# Altium schematic symbol library Molex PicoBlade Connectors.SchLib: 29 symbols
Pins are listed as number, name and electrical type; pins without a type are passive.

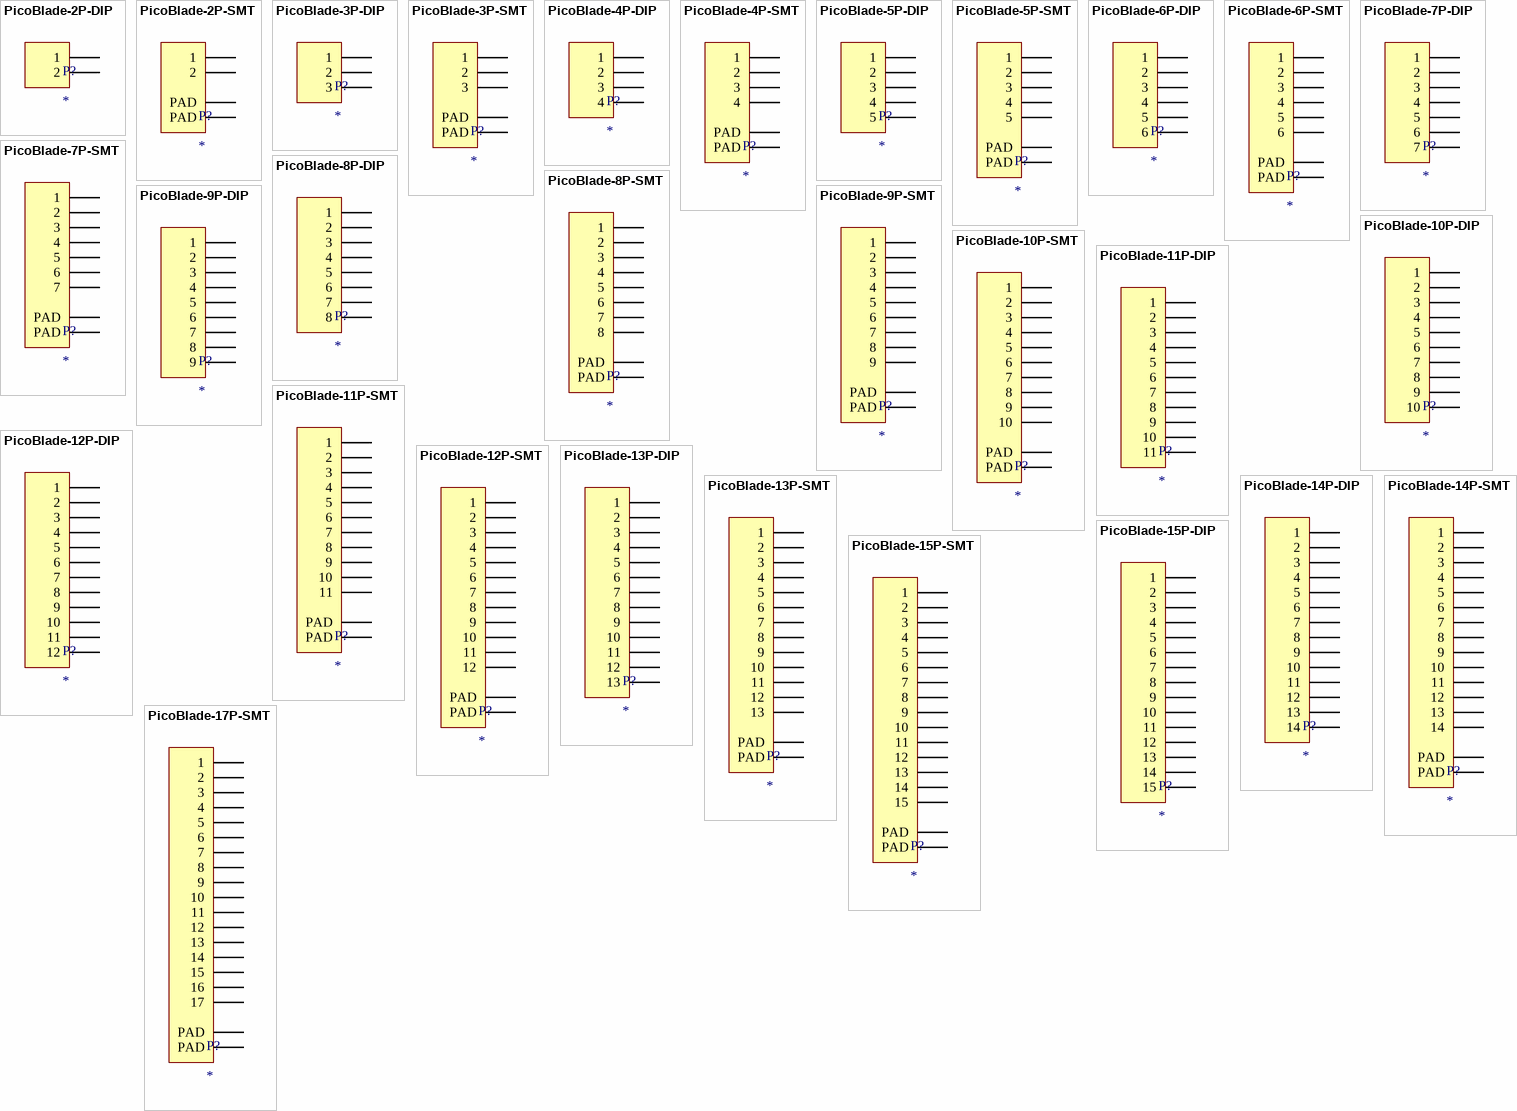
[diagram p0: symbols PicoBlade-2P-DIP to PicoBlade-17P-SMT]

## PicoBlade-2P-DIP
designator P?
1A, 125V, 1.25mm pitch connector
footprint 53047-0210 (1.25mm Pitch PicoBlade Wire-to-Board Header, Vertical, with Friction Lock, 2 Circuits)
footprint 53048-0210 (1.25mm Pitch PicoBlade 1.25mm Pitch PicoBlade Header, Through Hole, Right-Angle, 2 Circuits, Tin (Sn) Plating)
pins: 1, 2

## PicoBlade-2P-SMT
designator P?
1A, 125V, 1.25mm pitch connector
footprint 53261-0271 (1.25mm Pitch PicoBlade Header, Surface Mount, Right-Angle, 2 Circuits, Tin (Sn) Plating)
footprint 53398-0271 (1.25mm Pitch PicoBlade Header, Surface Mount, Vertical, 2 Circuits)
pins: 0 PAD, 1, 2, 100 PAD

## PicoBlade-3P-DIP
designator P?
1A, 125V, 1.25mm pitch connector
footprint 53047-0310 (1.25mm Pitch PicoBlade Wire-to-Board Header, Vertical, with Friction Lock, 3 Circuits)
footprint 53048-0310 (1.25mm Pitch PicoBlade 1.25mm Pitch PicoBlade Header, Through Hole, Right-Angle, 3 Circuits, Tin (Sn) Plating)
pins: 1, 2, 3

## PicoBlade-3P-SMT
designator P?
1A, 125V, 1.25mm pitch connector
footprint 53261-0371 (1.25mm Pitch PicoBlade Header, Surface Mount, Right-Angle, 3 Circuits, Tin (Sn) Plating)
footprint 53398-0371 (1.25mm Pitch PicoBlade Header, Surface Mount, Vertical, 3 Circuits)
pins: 0 PAD, 1, 2, 3, 100 PAD

## PicoBlade-4P-DIP
designator P?
1A, 125V, 1.25mm pitch connector
footprint 53047-0410 (1.25mm Pitch PicoBlade Wire-to-Board Header, Vertical, with Friction Lock, 4 Circuits)
footprint 53048-0410 (1.25mm Pitch PicoBlade 1.25mm Pitch PicoBlade Header, Through Hole, Right-Angle, 4 Circuits, Tin (Sn) Plating)
pins: 1, 2, 3, 4

## PicoBlade-4P-SMT
designator P?
1A, 125V, 1.25mm pitch connector
footprint 53261-0471 (1.25mm Pitch PicoBlade Header, Surface Mount, Right-Angle, 4 Circuits, Tin (Sn) Plating)
footprint 53398-0471 (1.25mm Pitch PicoBlade Header, Surface Mount, Vertical, 4 Circuits)
pins: 0 PAD, 1, 2, 3, 4, 100 PAD

## PicoBlade-5P-DIP
designator P?
1A, 125V, 1.25mm pitch connector
footprint 53047-0510 (1.25mm Pitch PicoBlade Wire-to-Board Header, Vertical, with Friction Lock, 5 Circuits)
footprint 53048-0510 (1.25mm Pitch PicoBlade 1.25mm Pitch PicoBlade Header, Through Hole, Right-Angle, 5 Circuits, Tin (Sn) Plating)
pins: 1, 2, 3, 4, 5

## PicoBlade-5P-SMT
designator P?
1A, 125V, 1.25mm pitch connector
footprint 53261-0571 (1.25mm Pitch PicoBlade Header, Surface Mount, Right-Angle, 5 Circuits, Tin (Sn) Plating)
footprint 53398-0571 (1.25mm Pitch PicoBlade Header, Surface Mount, Vertical, 5 Circuits)
pins: 0 PAD, 1, 2, 3, 4, 5, 100 PAD

## PicoBlade-6P-DIP
designator P?
1A, 125V, 1.25mm pitch connector
footprint 53047-0610 (1.25mm Pitch PicoBlade Wire-to-Board Header, Vertical, with Friction Lock, 6 Circuits)
footprint 53048-0610 (1.25mm Pitch PicoBlade 1.25mm Pitch PicoBlade Header, Through Hole, Right-Angle, 6 Circuits, Tin (Sn) Plating)
pins: 1, 2, 3, 4, 5, 6

## PicoBlade-6P-SMT
designator P?
1A, 125V, 1.25mm pitch connector
footprint 53261-0671 (1.25mm Pitch PicoBlade Header, Surface Mount, Right-Angle, 6 Circuits, Tin (Sn) Plating)
footprint 53398-0671 (1.25mm Pitch PicoBlade Header, Surface Mount, Vertical, 6 Circuits)
pins: 0 PAD, 1, 2, 3, 4, 5, 6, 100 PAD

## PicoBlade-7P-DIP
designator P?
1A, 125V, 1.25mm pitch connector
footprint 53047-0710 (1.25mm Pitch PicoBlade Wire-to-Board Header, Vertical, with Friction Lock, 7 Circuits)
footprint 53048-0710 (1.25mm Pitch PicoBlade 1.25mm Pitch PicoBlade Header, Through Hole, Right-Angle, 7 Circuits, Tin (Sn) Plating)
pins: 1, 2, 3, 4, 5, 6, 7

## PicoBlade-7P-SMT
designator P?
1A, 125V, 1.25mm pitch connector
footprint 53261-0771 (1.25mm Pitch PicoBlade Header, Surface Mount, Right-Angle, 7 Circuits, Tin (Sn) Plating)
footprint 53398-0771 (1.25mm Pitch PicoBlade Header, Surface Mount, Vertical, 7 Circuits)
pins: 0 PAD, 1, 2, 3, 4, 5, 6, 7, 100 PAD

## PicoBlade-8P-DIP
designator P?
1A, 125V, 1.25mm pitch connector
footprint 53047-0810 (1.25mm Pitch PicoBlade Wire-to-Board Header, Vertical, with Friction Lock, 8 Circuits)
footprint 53048-0810 (1.25mm Pitch PicoBlade 1.25mm Pitch PicoBlade Header, Through Hole, Right-Angle, 8 Circuits, Tin (Sn) Plating)
pins: 1, 2, 3, 4, 5, 6, 7, 8

## PicoBlade-8P-SMT
designator P?
1A, 125V, 1.25mm pitch connector
footprint 53261-0871 (1.25mm Pitch PicoBlade Header, Surface Mount, Right-Angle, 8 Circuits, Tin (Sn) Plating)
footprint 53398-0871 (1.25mm Pitch PicoBlade Header, Surface Mount, Vertical, 8 Circuits)
pins: 0 PAD, 1, 2, 3, 4, 5, 6, 7, 8, 100 PAD

## PicoBlade-9P-DIP
designator P?
1A, 125V, 1.25mm pitch connector
footprint 53047-0910 (1.25mm Pitch PicoBlade Wire-to-Board Header, Vertical, with Friction Lock, 9 Circuits)
footprint 53048-0910 (1.25mm Pitch PicoBlade 1.25mm Pitch PicoBlade Header, Through Hole, Right-Angle, 9 Circuits, Tin (Sn) Plating)
pins: 1, 2, 3, 4, 5, 6, 7, 8, 9

## PicoBlade-9P-SMT
designator P?
1A, 125V, 1.25mm pitch connector
footprint 53261-0971 (1.25mm Pitch PicoBlade Header, Surface Mount, Right-Angle, 9 Circuits, Tin (Sn) Plating)
footprint 53398-0971 (1.25mm Pitch PicoBlade Header, Surface Mount, Vertical, 9 Circuits)
pins: 0 PAD, 1, 2, 3, 4, 5, 6, 7, 8, 9, 100 PAD

## PicoBlade-10P-DIP
designator P?
1A, 125V, 1.25mm pitch connector
footprint 53047-1010 (1.25mm Pitch PicoBlade Wire-to-Board Header, Vertical, with Friction Lock, 10 Circuits)
footprint 53048-1010 (1.25mm Pitch PicoBlade 1.25mm Pitch PicoBlade Header, Through Hole, Right-Angle, 10 Circuits, Tin (Sn) Plating)
pins: 1, 2, 3, 4, 5, 6, 7, 8, 9, 10

## PicoBlade-10P-SMT
designator P?
1A, 125V, 1.25mm pitch connector
footprint 53261-1071 (1.25mm Pitch PicoBlade Header, Surface Mount, Right-Angle, 10 Circuits, Tin (Sn) Plating)
footprint 53398-1071 (1.25mm Pitch PicoBlade Header, Surface Mount, Vertical, 10 Circuits)
pins: 0 PAD, 1, 2, 3, 4, 5, 6, 7, 8, 9, 10, 100 PAD

## PicoBlade-11P-DIP
designator P?
1A, 125V, 1.25mm pitch connector
footprint 53047-1110 (1.25mm Pitch PicoBlade Wire-to-Board Header, Vertical, with Friction Lock, 11 Circuits)
footprint 53048-1110 (1.25mm Pitch PicoBlade 1.25mm Pitch PicoBlade Header, Through Hole, Right-Angle, 11 Circuits, Tin (Sn) Plating)
pins: 1, 2, 3, 4, 5, 6, 7, 8, 9, 10, 11

## PicoBlade-11P-SMT
designator P?
1A, 125V, 1.25mm pitch connector
footprint 53261-1171 (1.25mm Pitch PicoBlade Header, Surface Mount, Right-Angle, 11 Circuits, Tin (Sn) Plating)
footprint 53398-1171 (1.25mm Pitch PicoBlade Header, Surface Mount, Vertical, 11 Circuits)
pins: 0 PAD, 1, 2, 3, 4, 5, 6, 7, 8, 9, 10, 11, 100 PAD

## PicoBlade-12P-DIP
designator P?
1A, 125V, 1.25mm pitch connector
footprint 53047-1210 (1.25mm Pitch PicoBlade Wire-to-Board Header, Vertical, with Friction Lock, 12 Circuits)
footprint 53048-1210 (1.25mm Pitch PicoBlade 1.25mm Pitch PicoBlade Header, Through Hole, Right-Angle, 12 Circuits, Tin (Sn) Plating)
pins: 1, 2, 3, 4, 5, 6, 7, 8, 9, 10, 11, 12

## PicoBlade-12P-SMT
designator P?
1A, 125V, 1.25mm pitch connector
footprint 53261-1271 (1.25mm Pitch PicoBlade Header, Surface Mount, Right-Angle, 12 Circuits, Tin (Sn) Plating)
footprint 53398-1271 (1.25mm Pitch PicoBlade Header, Surface Mount, Vertical, 12 Circuits)
pins: 0 PAD, 1, 2, 3, 4, 5, 6, 7, 8, 9, 10, 11, 12, 100 PAD

## PicoBlade-13P-DIP
designator P?
1A, 125V, 1.25mm pitch connector
footprint 53047-1310 (1.25mm Pitch PicoBlade Wire-to-Board Header, Vertical, with Friction Lock, 13 Circuits)
footprint 53048-1310 (1.25mm Pitch PicoBlade 1.25mm Pitch PicoBlade Header, Through Hole, Right-Angle, 13 Circuits, Tin (Sn) Plating)
pins: 1, 2, 3, 4, 5, 6, 7, 8, 9, 10, 11, 12, 13

## PicoBlade-13P-SMT
designator P?
1A, 125V, 1.25mm pitch connector
footprint 53261-1371 (1.25mm Pitch PicoBlade Header, Surface Mount, Right-Angle, 13 Circuits, Tin (Sn) Plating)
footprint 53398-1371 (1.25mm Pitch PicoBlade Header, Surface Mount, Vertical, 13 Circuits)
pins: 0 PAD, 1, 2, 3, 4, 5, 6, 7, 8, 9, 10, 11, 12, 13, 100 PAD

## PicoBlade-14P-DIP
designator P?
1A, 125V, 1.25mm pitch connector
footprint 53047-1410 (1.25mm Pitch PicoBlade Wire-to-Board Header, Vertical, with Friction Lock, 14 Circuits)
footprint 53048-1410 (1.25mm Pitch PicoBlade 1.25mm Pitch PicoBlade Header, Through Hole, Right-Angle, 14 Circuits, Tin (Sn) Plating)
pins: 1, 2, 3, 4, 5, 6, 7, 8, 9, 10, 11, 12, 13, 14

## PicoBlade-14P-SMT
designator P?
1A, 125V, 1.25mm pitch connector
footprint 53261-1471 (1.25mm Pitch PicoBlade Header, Surface Mount, Right-Angle, 14 Circuits, Tin (Sn) Plating)
footprint 53398-1471 (1.25mm Pitch PicoBlade Header, Surface Mount, Vertical, 14 Circuits)
pins: 0 PAD, 1, 2, 3, 4, 5, 6, 7, 8, 9, 10, 11, 12, 13, 14, 100 PAD

## PicoBlade-15P-DIP
designator P?
1A, 125V, 1.25mm pitch connector
footprint 53047-1510 (1.25mm Pitch PicoBlade Wire-to-Board Header, Vertical, with Friction Lock, 15 Circuits)
footprint 53048-1510 (1.25mm Pitch PicoBlade 1.25mm Pitch PicoBlade Header, Through Hole, Right-Angle, 15 Circuits, Tin (Sn) Plating)
pins: 1, 2, 3, 4, 5, 6, 7, 8, 9, 10, 11, 12, 13, 14, 15

## PicoBlade-15P-SMT
designator P?
1A, 125V, 1.25mm pitch connector
footprint 53261-1571 (1.25mm Pitch PicoBlade Header, Surface Mount, Right-Angle, 15 Circuits, Tin (Sn) Plating)
footprint 53398-1571 (1.25mm Pitch PicoBlade Header, Surface Mount, Vertical, 15 Circuits)
pins: 0 PAD, 1, 2, 3, 4, 5, 6, 7, 8, 9, 10, 11, 12, 13, 14, 15, 100 PAD

## PicoBlade-17P-SMT
designator P?
1A, 125V, 1.25mm pitch connector
footprint 53261-1771 (1.25mm Pitch PicoBlade Header, Surface Mount, Right-Angle, 17 Circuits, Tin (Sn) Plating)
pins: 0 PAD, 1, 2, 3, 4, 5, 6, 7, 8, 9, 10, 11, 12, 13, 14, 15, 16, 17, 100 PAD